# Altium footprint library 0541323062.PcbLib: 1 footprints
Each footprint in its own frame and in the unit in brackets; x right, y up, seen from the top. Pads: shape width x height; smd on the part's side, far side on the other; paste and mask are expansions set on the pad; w line width, h text height; cw(c..) or ccw(c..) is an arc to the next point about the centre after c.
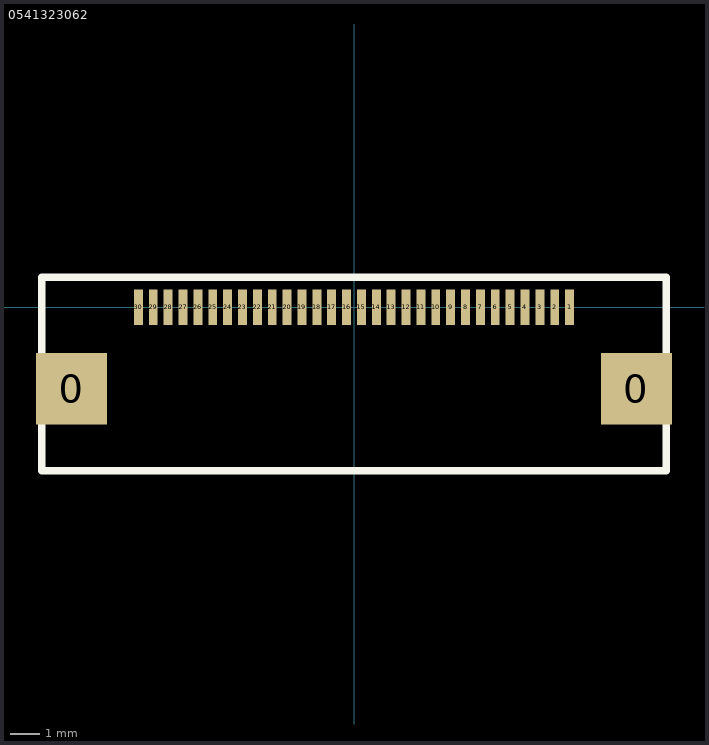
[diagram p0: the footprint, top view; thin cyan lines are the x and y axes]

## 0541323062 [mm]
pads (32):
  rect 2.4x2.4 smd: 0(-9.5,-2.75) 0(9.5,-2.75)
  rect 0.3x1.2 smd: 1(7.25,0) 2(6.75,0) 3(6.25,0) 4(5.75,0) 5(5.25,0) 6(4.75,0) 7(4.25,0) 8(3.75,0) 9(3.25,0) 10(2.75,0) 11(2.25,0) 12(1.75,0) 13(1.25,0) 14(0.75,0) 15(0.25,0) 16(-0.25,0) 17(-0.75,0) 18(-1.25,0) 19(-1.75,0) 20(-2.25,0) 21(-2.75,0) 22(-3.25,0) 23(-3.75,0) 24(-4.25,0) 25(-4.75,0) 26(-5.25,0) 27(-5.75,0) 28(-6.25,0) 29(-6.75,0) 30(-7.25,0)
Top Overlay:
  lines w0.254: -10.5,-5.5 10.5,-5.5 10.5,1 -1.5,1 -10.5,1 -10.5,-5.5
3D body: height 1.95, standoff -0.05, extent -10.25,-5.25 10.25,0.35